# Altium footprint library Headers.PcbLib: 1 footprints
Each footprint in its own frame and in the unit in brackets; x right, y up, seen from the top. Pads: shape width x height; smd on the part's side, far side on the other; paste and mask are expansions set on the pad; w line width, h text height; cw(c..) or ccw(c..) is an arc to the next point about the centre after c.
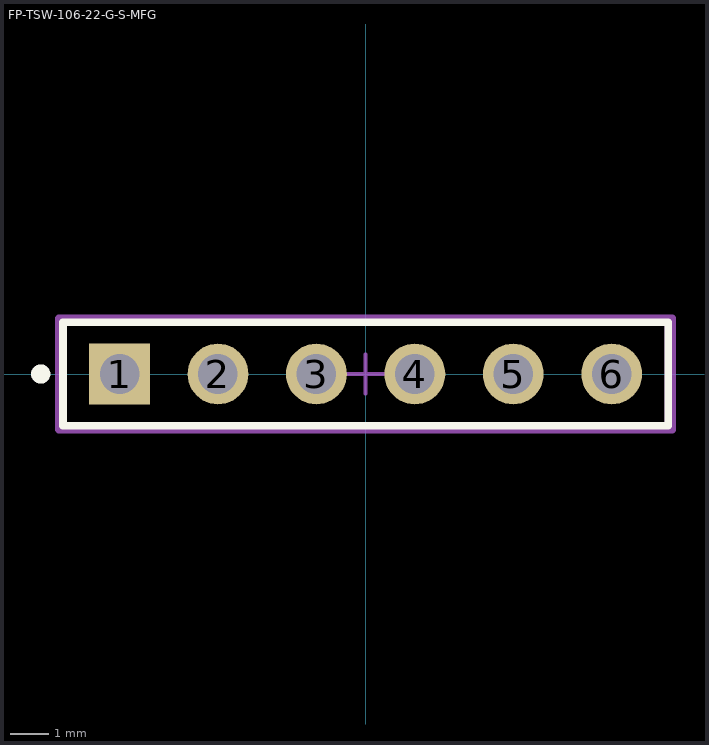
[diagram p0: the footprint, top view; thin cyan lines are the x and y axes]

## FP-TSW-106-22-G-S-MFG [mm]
pads (6):
  rect 1.57x1.57 hole 1.02 paste-2539.97 mask+0: 1(-6.35,0)
  round 1.57 hole 1.02 paste-2539.97 mask+0: 2(-3.81,0) 3(-1.27,0) 4(1.27,0) 5(3.81,0) 6(6.35,0)
Top Overlay:
  circle w0.25: c-8.385,0 r0.125
  lines w0.2: -7.81,-1.335 -7.81,1.335 7.81,1.335 7.81,-1.335 -7.81,-1.335
Top Assembly:
  lines w0.2: -7.91,-1.435 -7.91,1.435 7.91,1.435 7.91,-1.435 -7.91,-1.435
  text ".Designator" at 0,0.188 h1
Top 3D Body:
  lines w0.2: -7.81,-1.335 -7.81,1.335 7.81,1.335 7.81,-1.335 -7.81,-1.335
Top Courtyard:
  lines w0.2: -7.91,-1.435 -7.91,1.435 7.91,1.435 7.91,-1.435 -7.91,-1.435
Top Component Center:
  lines w0.1: -0.5,0 0.5,0 ; 0,-0.5 0,0.5
3D body "Conn_Samtec_TSW-106-22-G-S_eec.STEP": height 0.25, standoff 0, extent -7.91,-1.435 7.91,1.435